# EAGLE library part MCU_CY8C5888 (library akita)
Cypess, CY8C5888, PSoC5LP
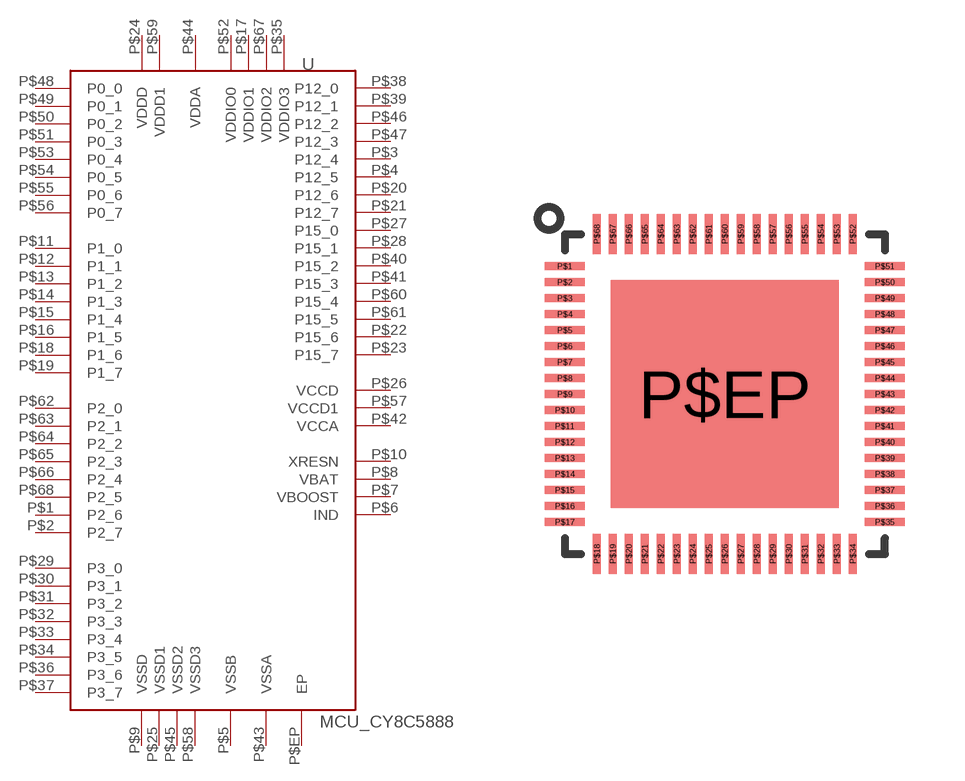
[diagram p155: symbol with the pads of QFN68_04MM; footprint QFN68_04MM]

Designator prefix U

## MCU_CY8C5888LTI-LP097  [QFN68_04MM]
P$1  P2_6
P$2  P2_7
P$3  P12_4
P$4  P12_5
P$5  VSSB
P$6  IND
P$7  VBOOST
P$8  VBAT
P$9  VSSD
P$10  XRESN
P$11  P1_0
P$12  P1_1
P$13  P1_2
P$14  P1_3
P$15  P1_4
P$16  P1_5
P$17  VDDIO1
P$18  P1_6
P$19  P1_7
P$20  P12_6
P$21  P12_7
P$22  P15_6
P$23  P15_7
P$24  VDDD
P$25  VSSD1
P$26  VCCD
P$27  P15_0
P$28  P15_1
P$29  P3_0
P$30  P3_1
P$31  P3_2
P$32  P3_3
P$33  P3_4
P$34  P3_5
P$35  VDDIO3
P$36  P3_6
P$37  P3_7
P$38  P12_0
P$39  P12_1
P$40  P15_2
P$41  P15_3
P$42  VCCA
P$43  VSSA
P$44  VDDA
P$45  VSSD2
P$46  P12_2
P$47  P12_3
P$48  P0_0
P$49  P0_1
P$50  P0_2
P$51  P0_3
P$52  VDDIO0
P$53  P0_4
P$54  P0_5
P$55  P0_6
P$56  P0_7
P$57  VCCD1
P$58  VSSD3
P$59  VDDD1
P$60  P15_4
P$61  P15_5
P$62  P2_0
P$63  P2_1
P$64  P2_2
P$65  P2_3
P$66  P2_4
P$67  VDDIO2
P$68  P2_5
P$EP  EP

## Footprint QFN68_04MM (pad centres in mm)
QFN68pin, 0.4mm pitch, exp pad
smd 1 x 0.2: P$1 -4,3.2; P$2 -4,2.8; P$3 -4,2.4; P$4 -4,2; P$5 -4,1.6; P$6 -4,1.2; P$7 -4,0.8; P$8 -4,0.4; P$9 -4,0; P$10 -4,-0.4; P$11 -4,-0.8; P$12 -4,-1.2; P$13 -4,-1.6; P$14 -4,-2; P$15 -4,-2.4; P$16 -4,-2.8; P$17 -4,-3.2; P$35 4,-3.2; P$36 4,-2.8; P$37 4,-2.4; P$38 4,-2; P$39 4,-1.6; P$40 4,-1.2; P$41 4,-0.8; P$42 4,-0.4; P$43 4,0; P$44 4,0.4; P$45 4,0.8; P$46 4,1.2; P$47 4,1.6; P$48 4,2; P$49 4,2.4; P$50 4,2.8; P$51 4,3.2
smd 0.2 x 1: P$18 -3.2,-4; P$19 -2.8,-4; P$20 -2.4,-4; P$21 -2,-4; P$22 -1.6,-4; P$23 -1.2,-4; P$24 -0.8,-4; P$25 -0.4,-4; P$26 0,-4; P$27 0.4,-4; P$28 0.8,-4; P$29 1.2,-4; P$30 1.6,-4; P$31 2,-4; P$32 2.4,-4; P$33 2.8,-4; P$34 3.2,-4; P$52 3.2,4; P$53 2.8,4; P$54 2.4,4; P$55 2,4; P$56 1.6,4; P$57 1.2,4; P$58 0.8,4; P$59 0.4,4; P$60 0,4; P$61 -0.4,4; P$62 -0.8,4; P$63 -1.2,4; P$64 -1.6,4; P$65 -2,4; P$66 -2.4,4; P$67 -2.8,4; P$68 -3.2,4
smd 5.7 x 5.7: P$EP 0,0